# Altium footprint library IPC-7353 SOP_65P_L.PcbLib: 8 footprints
Each footprint in its own frame and in the unit in brackets; x right, y up, seen from the top. Pads: shape width x height; smd on the part's side, far side on the other; paste and mask are expansions set on the pad; w line width, h text height; cw(c..) or ccw(c..) is an arc to the next point about the centre after c.
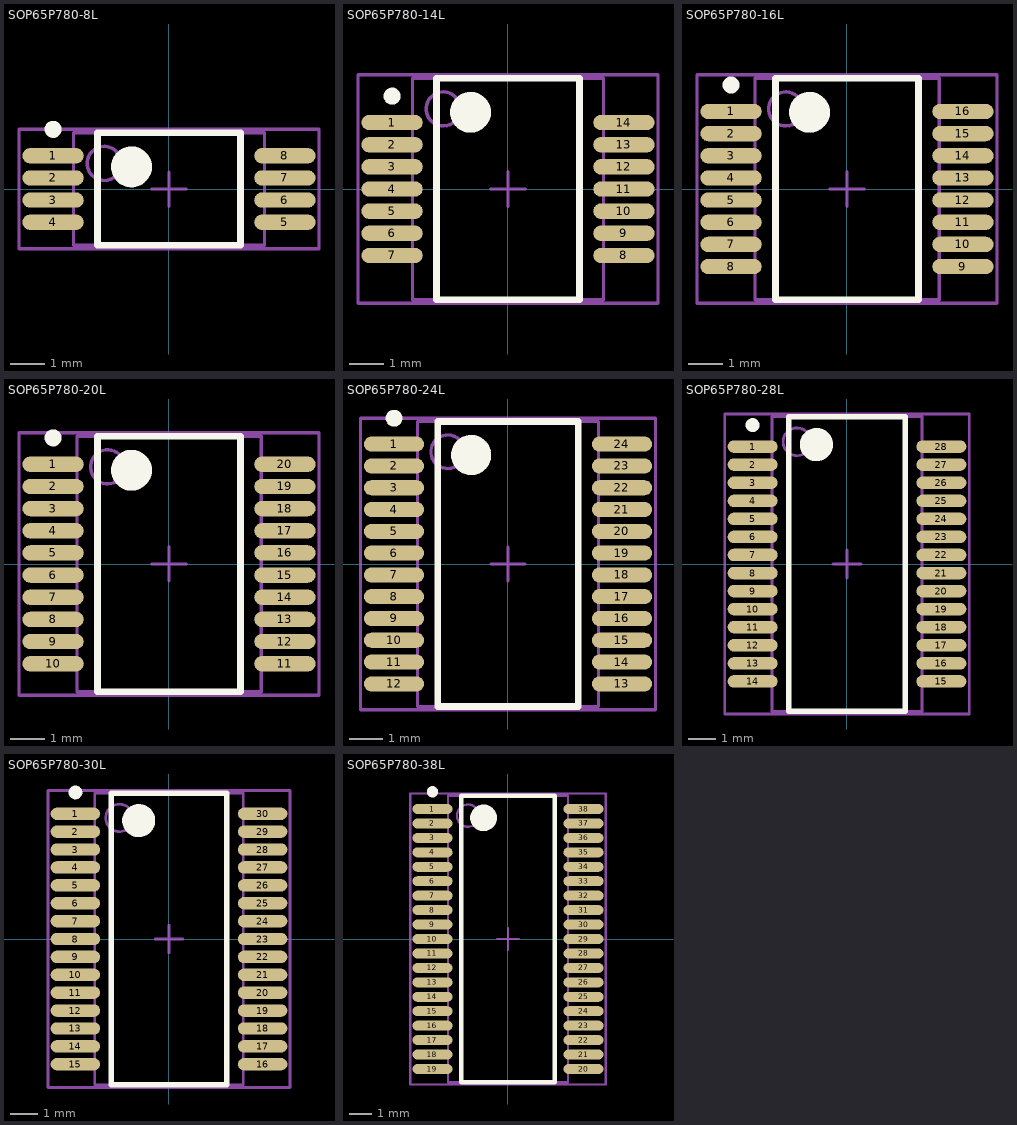
[diagram p0: the footprints below, top view; thin cyan lines are the x and y axes]

## SOP65P780-8L [mm] "SOP, 8-Leads, Body 3x5.3mm, Pitch 0.65mm, IPC High Density"
height 2
pads (8):
  oval 1.8x0.45 smd: 1(-3.4,0.975) 2(-3.4,0.325) 3(-3.4,-0.325) 4(-3.4,-0.975) 5(3.4,-0.975) 6(3.4,-0.325) 7(3.4,0.325) 8(3.4,0.975)
Top Overlay:
  circle w0.25: c-3.4,1.75 r0.125
  circle w0.6: c-1.1,0.65 r0.3
  lines w0.2: -2.1,-1.65 -2.1,1.65 2.1,1.65 2.1,-1.65 -2.1,-1.65
Mechanical 13:
  circle w0.1: c-1.9,0.75 r0.5
  lines w0.1: -2.8,-1.65 -2.8,1.65 2.8,1.65 2.8,-1.65 -2.8,-1.65
Mechanical 15:
  lines w0.1: -0.5,0 0.5,0 ; 0,-0.5 0,0.5 ; -4.4,-1.75 -4.4,1.75 4.4,1.75 4.4,-1.75 -4.4,-1.75
3D body: height 2, standoff 0, extent -2.8,-1.65 2.8,1.65

## SOP65P780-14L [mm] "SOP, 14-Leads, Body 6.2x5.3mm, Pitch 0.65mm, IPC High Density"
height 2
pads (14):
  oval 1.8x0.45 smd: 1(-3.4,1.95) 2(-3.4,1.3) 3(-3.4,0.65) 4(-3.4,0) 5(-3.4,-0.65) 6(-3.4,-1.3) 7(-3.4,-1.95) 8(3.4,-1.95) 9(3.4,-1.3) 10(3.4,-0.65) 11(3.4,0) 12(3.4,0.65) 13(3.4,1.3) 14(3.4,1.95)
Top Overlay:
  circle w0.25: c-3.4,2.725 r0.125
  circle w0.6: c-1.1,2.25 r0.3
  lines w0.2: -2.1,-3.25 -2.1,3.25 2.1,3.25 2.1,-3.25 -2.1,-3.25
Mechanical 13:
  circle w0.1: c-1.9,2.35 r0.5
  lines w0.1: -2.8,-3.25 -2.8,3.25 2.8,3.25 2.8,-3.25 -2.8,-3.25
Mechanical 15:
  lines w0.1: -0.5,0 0.5,0 ; 0,-0.5 0,0.5 ; -4.4,-3.35 -4.4,3.35 4.4,3.35 4.4,-3.35 -4.4,-3.35
3D body: height 2, standoff 0, extent -2.8,-3.25 2.8,3.25

## SOP65P780-16L [mm] "SOP, 16-Leads, Body 6.2x5.3mm, Pitch 0.65mm, IPC High Density"
height 2
pads (16):
  oval 1.8x0.45 smd: 1(-3.4,2.275) 2(-3.4,1.625) 3(-3.4,0.975) 4(-3.4,0.325) 5(-3.4,-0.325) 6(-3.4,-0.975) 7(-3.4,-1.625) 8(-3.4,-2.275) 9(3.4,-2.275) 10(3.4,-1.625) 11(3.4,-0.975) 12(3.4,-0.325) 13(3.4,0.325) 14(3.4,0.975) 15(3.4,1.625) 16(3.4,2.275)
Top Overlay:
  circle w0.25: c-3.4,3.05 r0.125
  circle w0.6: c-1.1,2.25 r0.3
  lines w0.2: -2.1,-3.25 -2.1,3.25 2.1,3.25 2.1,-3.25 -2.1,-3.25
Mechanical 13:
  circle w0.1: c-1.8,2.35 r0.5
  lines w0.1: -2.7,-3.25 -2.7,3.25 2.7,3.25 2.7,-3.25 -2.7,-3.25
Mechanical 15:
  lines w0.1: -0.5,0 0.5,0 ; 0,-0.5 0,0.5 ; -4.4,-3.35 -4.4,3.35 4.4,3.35 4.4,-3.35 -4.4,-3.35
3D body: height 2, standoff 0, extent -2.7,-3.25 2.7,3.25

## SOP65P780-20L [mm] "SOP, 20-Leads, Body 7.2x5.3mm, Pitch 0.65mm, IPC High Density"
height 1.98
pads (20):
  oval 1.8x0.45 smd: 1(-3.4,2.925) 2(-3.4,2.275) 3(-3.4,1.625) 4(-3.4,0.975) 5(-3.4,0.325) 6(-3.4,-0.325) 7(-3.4,-0.975) 8(-3.4,-1.625) 9(-3.4,-2.275) 10(-3.4,-2.925) 11(3.4,-2.925) 12(3.4,-2.275) 13(3.4,-1.625) 14(3.4,-0.975) 15(3.4,-0.325) 16(3.4,0.325) 17(3.4,0.975) 18(3.4,1.625) 19(3.4,2.275) 20(3.4,2.925)
Top Overlay:
  circle w0.25: c-3.4,3.7 r0.125
  circle w0.6: c-1.1,2.75 r0.3
  lines w0.2: -2.1,-3.75 -2.1,3.75 2.1,3.75 2.1,-3.75 -2.1,-3.75
Mechanical 13:
  circle w0.1: c-1.8,2.85 r0.5
  lines w0.1: -2.7,-3.75 -2.7,3.75 2.7,3.75 2.7,-3.75 -2.7,-3.75
Mechanical 15:
  lines w0.1: -0.5,0 0.5,0 ; 0,-0.5 0,0.5 ; -4.4,-3.85 -4.4,3.85 4.4,3.85 4.4,-3.85 -4.4,-3.85
3D body: height 1.98, standoff 0, extent -2.7,-3.75 2.7,3.75

## SOP65P780-24L [mm] "SOP, 24-Leads, Body 8.2x5.3mm, Pitch 0.65mm, IPC High Density"
height 1.78
pads (24):
  oval 1.8x0.45 smd: 1(-3.4,3.575) 2(-3.4,2.925) 3(-3.4,2.275) 4(-3.4,1.625) 5(-3.4,0.975) 6(-3.4,0.325) 7(-3.4,-0.325) 8(-3.4,-0.975) 9(-3.4,-1.625) 10(-3.4,-2.275) 11(-3.4,-2.925) 12(-3.4,-3.575) 13(3.4,-3.575) 14(3.4,-2.925) 15(3.4,-2.275) 16(3.4,-1.625) 17(3.4,-0.975) 18(3.4,-0.325) 19(3.4,0.325) 20(3.4,0.975) 21(3.4,1.625) 22(3.4,2.275) 23(3.4,2.925) 24(3.4,3.575)
Top Overlay:
  circle w0.25: c-3.4,4.35 r0.125
  circle w0.6: c-1.1,3.25 r0.3
  lines w0.2: -2.1,-4.25 -2.1,4.25 2.1,4.25 2.1,-4.25 -2.1,-4.25
Mechanical 13:
  circle w0.1: c-1.8,3.35 r0.5
  lines w0.1: -2.7,-4.25 -2.7,4.25 2.7,4.25 2.7,-4.25 -2.7,-4.25
Mechanical 15:
  lines w0.1: -0.5,0 0.5,0 ; 0,-0.5 0,0.5 ; -4.4,-4.35 -4.4,4.35 4.4,4.35 4.4,-4.35 -4.4,-4.35
3D body: height 1.78, standoff 0, extent -2.7,-4.25 2.7,4.25

## SOP65P780-28L [mm] "SOP, 28-Leads, Body 10.2x5.3mm, Pitch 0.65mm, IPC High Density"
height 2
pads (28):
  oval 1.8x0.45 smd: 1(-3.4,4.225) 2(-3.4,3.575) 3(-3.4,2.925) 4(-3.4,2.275) 5(-3.4,1.625) 6(-3.4,0.975) 7(-3.4,0.325) 8(-3.4,-0.325) 9(-3.4,-0.975) 10(-3.4,-1.625) 11(-3.4,-2.275) 12(-3.4,-2.925) 13(-3.4,-3.575) 14(-3.4,-4.225) 15(3.4,-4.225) 16(3.4,-3.575) 17(3.4,-2.925) 18(3.4,-2.275) 19(3.4,-1.625) 20(3.4,-0.975) 21(3.4,-0.325) 22(3.4,0.325) 23(3.4,0.975) 24(3.4,1.625) 25(3.4,2.275) 26(3.4,2.925) 27(3.4,3.575) 28(3.4,4.225)
Top Overlay:
  circle w0.25: c-3.4,5 r0.125
  circle w0.6: c-1.1,4.3 r0.3
  lines w0.2: -2.1,-5.3 -2.1,5.3 2.1,5.3 2.1,-5.3 -2.1,-5.3
Mechanical 13:
  circle w0.1: c-1.8,4.4 r0.5
  lines w0.1: -2.7,-5.3 -2.7,5.3 2.7,5.3 2.7,-5.3 -2.7,-5.3
Mechanical 15:
  lines w0.1: -0.5,0 0.5,0 ; 0,-0.5 0,0.5 ; -4.4,-5.4 -4.4,5.4 4.4,5.4 4.4,-5.4 -4.4,-5.4
3D body: height 2, standoff 0, extent -2.7,-5.3 2.7,5.3

## SOP65P780-30L [mm] "SOP, 30-Leads, Body 10.2x5.3mm, Pitch 0.65mm, IPC High Density"
height 2
pads (30):
  oval 1.8x0.45 smd: 1(-3.4,4.55) 2(-3.4,3.9) 3(-3.4,3.25) 4(-3.4,2.6) 5(-3.4,1.95) 6(-3.4,1.3) 7(-3.4,0.65) 8(-3.4,0) 9(-3.4,-0.65) 10(-3.4,-1.3) 11(-3.4,-1.95) 12(-3.4,-2.6) 13(-3.4,-3.25) 14(-3.4,-3.9) 15(-3.4,-4.55) 16(3.4,-4.55) 17(3.4,-3.9) 18(3.4,-3.25) 19(3.4,-2.6) 20(3.4,-1.95) 21(3.4,-1.3) 22(3.4,-0.65) 23(3.4,0) 24(3.4,0.65) 25(3.4,1.3) 26(3.4,1.95) 27(3.4,2.6) 28(3.4,3.25) 29(3.4,3.9) 30(3.4,4.55)
Top Overlay:
  circle w0.25: c-3.4,5.325 r0.125
  circle w0.6: c-1.1,4.3 r0.3
  lines w0.2: -2.1,-5.3 -2.1,5.3 2.1,5.3 2.1,-5.3 -2.1,-5.3
Mechanical 13:
  circle w0.1: c-1.8,4.4 r0.5
  lines w0.1: -2.7,-5.3 -2.7,5.3 2.7,5.3 2.7,-5.3 -2.7,-5.3
Mechanical 15:
  lines w0.1: -0.5,0 0.5,0 ; 0,-0.5 0,0.5 ; -4.4,-5.4 -4.4,5.4 4.4,5.4 4.4,-5.4 -4.4,-5.4
3D body: height 2, standoff 0, extent -2.7,-5.3 2.7,5.3

## SOP65P780-38L [mm] "SOP, 38-Leads, Body 12.6x5.3mm, Pitch 0.65mm, IPC High Density"
height 2
pads (38):
  oval 1.8x0.45 smd: 1(-3.4,5.85) 2(-3.4,5.2) 3(-3.4,4.55) 4(-3.4,3.9) 5(-3.4,3.25) 6(-3.4,2.6) 7(-3.4,1.95) 8(-3.4,1.3) 9(-3.4,0.65) 10(-3.4,0) 11(-3.4,-0.65) 12(-3.4,-1.3) 13(-3.4,-1.95) 14(-3.4,-2.6) 15(-3.4,-3.25) 16(-3.4,-3.9) 17(-3.4,-4.55) 18(-3.4,-5.2) 19(-3.4,-5.85) 20(3.4,-5.85) 21(3.4,-5.2) 22(3.4,-4.55) 23(3.4,-3.9) 24(3.4,-3.25) 25(3.4,-2.6) 26(3.4,-1.95) 27(3.4,-1.3) 28(3.4,-0.65) 29(3.4,0) 30(3.4,0.65) 31(3.4,1.3) 32(3.4,1.95) 33(3.4,2.6) 34(3.4,3.25) 35(3.4,3.9) 36(3.4,4.55) 37(3.4,5.2) 38(3.4,5.85)
Top Overlay:
  circle w0.25: c-3.4,6.625 r0.125
  circle w0.6: c-1.1,5.45 r0.3
  lines w0.2: -2.1,-6.45 -2.1,6.45 2.1,6.45 2.1,-6.45 -2.1,-6.45
Mechanical 13:
  circle w0.1: c-1.8,5.55 r0.5
  lines w0.1: -2.7,-6.45 -2.7,6.45 2.7,6.45 2.7,-6.45 -2.7,-6.45
Mechanical 15:
  lines w0.1: -0.5,0 0.5,0 ; 0,-0.5 0,0.5 ; -4.4,-6.55 -4.4,6.55 4.4,6.55 4.4,-6.55 -4.4,-6.55
3D body: height 2, standoff 0, extent -2.7,-6.45 2.7,6.45